# EAGLE library part TLV3502 (library texas-instruments)
High-Speed Comparator 4.5ns Rail-to-Rail
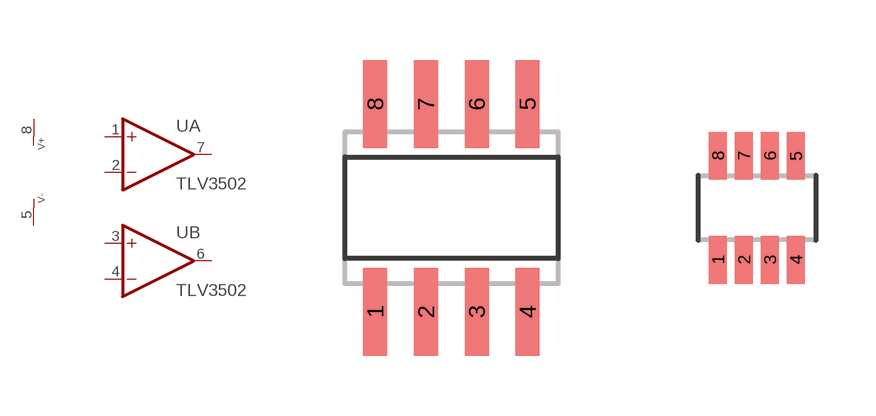
[diagram p20: symbol with the pads of SO08; footprints SO08, SOT23-8]

Designator prefix U; gates A=OC B=OC P=PWR+-

## TLV3502D (DIGIKEY: 296-18301-5-ND; P1I: o)  [SO08]
1  A:+IN  in
2  A:-IN  in
3  B:+IN  in
4  B:-IN  in
5  P:V-  pwr
6  B:OUT  oc
7  A:OUT  oc
8  P:V+  pwr

## TLV3502DCN (DIGIKEY: 296-18147-1-ND; P1I: o)  [SOT23-8]
Pads as for SO08

## Footprint SO08 (pad centres in mm)
SMALL OUTLINE INTEGRATED CIRCUIT body 3.9 mm/JEDEC MS-012AA
smd 0.6 x 2.2: 1 -1.905,-2.6; 2 -0.635,-2.6; 3 0.635,-2.6; 4 1.905,-2.6; 5 1.905,2.6; 6 0.635,2.6; 7 -0.635,2.6; 8 -1.905,2.6

## Footprint SOT23-8 (pad centres in mm)
SOT-23 - DCN 0.65 mm pitch
smd 0.45 x 1.2: 1 -0.975,-1.3; 2 -0.325,-1.3; 3 0.325,-1.3; 4 0.975,-1.3; 5 0.975,1.3; 6 0.325,1.3; 7 -0.325,1.3; 8 -0.975,1.3